# EAGLE library part CAT24C256WI-GT3 (library IC)
310090035 ; 256 kb I2C CMOS Serial EEPROM
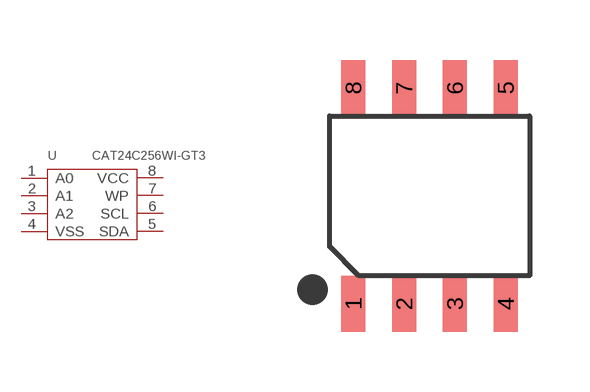
[diagram p29: symbol with the pads of SOIC8-6.0; footprint SOIC8-6.0]

Designator prefix U

## CAT24C256WI-GT3-CAT24C256WI-GT3  [SOIC8-6.0]
1  A0
2  A1
3  A2
4  VSS
5  SDA
6  SCL
7  WP
8  VCC

## Footprint SOIC8-6.0 (pad centres in mm)
smd 0.6 x 1.4: 1 -1.905,-2.7; 2 -0.635,-2.7; 3 0.635,-2.7; 4 1.905,-2.7; 5 1.905,2.7; 6 0.635,2.7; 7 -0.635,2.7; 8 -1.905,2.7